# EAGLE library part TPS62560 (library Deegou_IC)
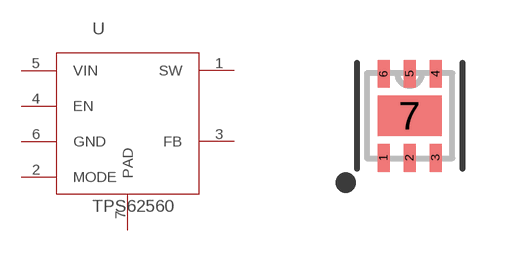
[diagram p120: symbol with the pads of DRV6_1P6X1; footprint DRV6_1P6X1]

Designator prefix U

## TPS62560 (DATASHEETURL: httpwww.ti.comlitgpnTPS62560; FAMILY_NAME: STEPDOWN REGULATOR; GENERIC_PART_NUMBER: TPS62560; INDUSTRY_STD_PKG_TYPE: SON; MANUFACTURER: Texas Instruments; MANUFACTURER_PART_NUMBER: tps62560_drv_6; PACKAGE_DESIGNATOR: DRV; PIN_COUNT: 6; VENDOR: Texas Instruments)  [DRV6_1P6X1]
1  SW
2  MODE
3  FB
4  EN
5  VIN
6  GND
7  PAD

## Footprint DRV6_1P6X1 (pad centres in mm)
smd 0.3 x 0.7: 1 -0.65,-1.05; 2 0,-1.05; 3 0.65,-1.05; 4 0.65,1.05; 5 0,1.05; 6 -0.65,1.05
smd 1.6 x 1.016: 7 0,0